# Altium schematic symbol library Custom.SchLib: 20 symbols
Pins are listed as number, name and electrical type; pins without a type are passive.

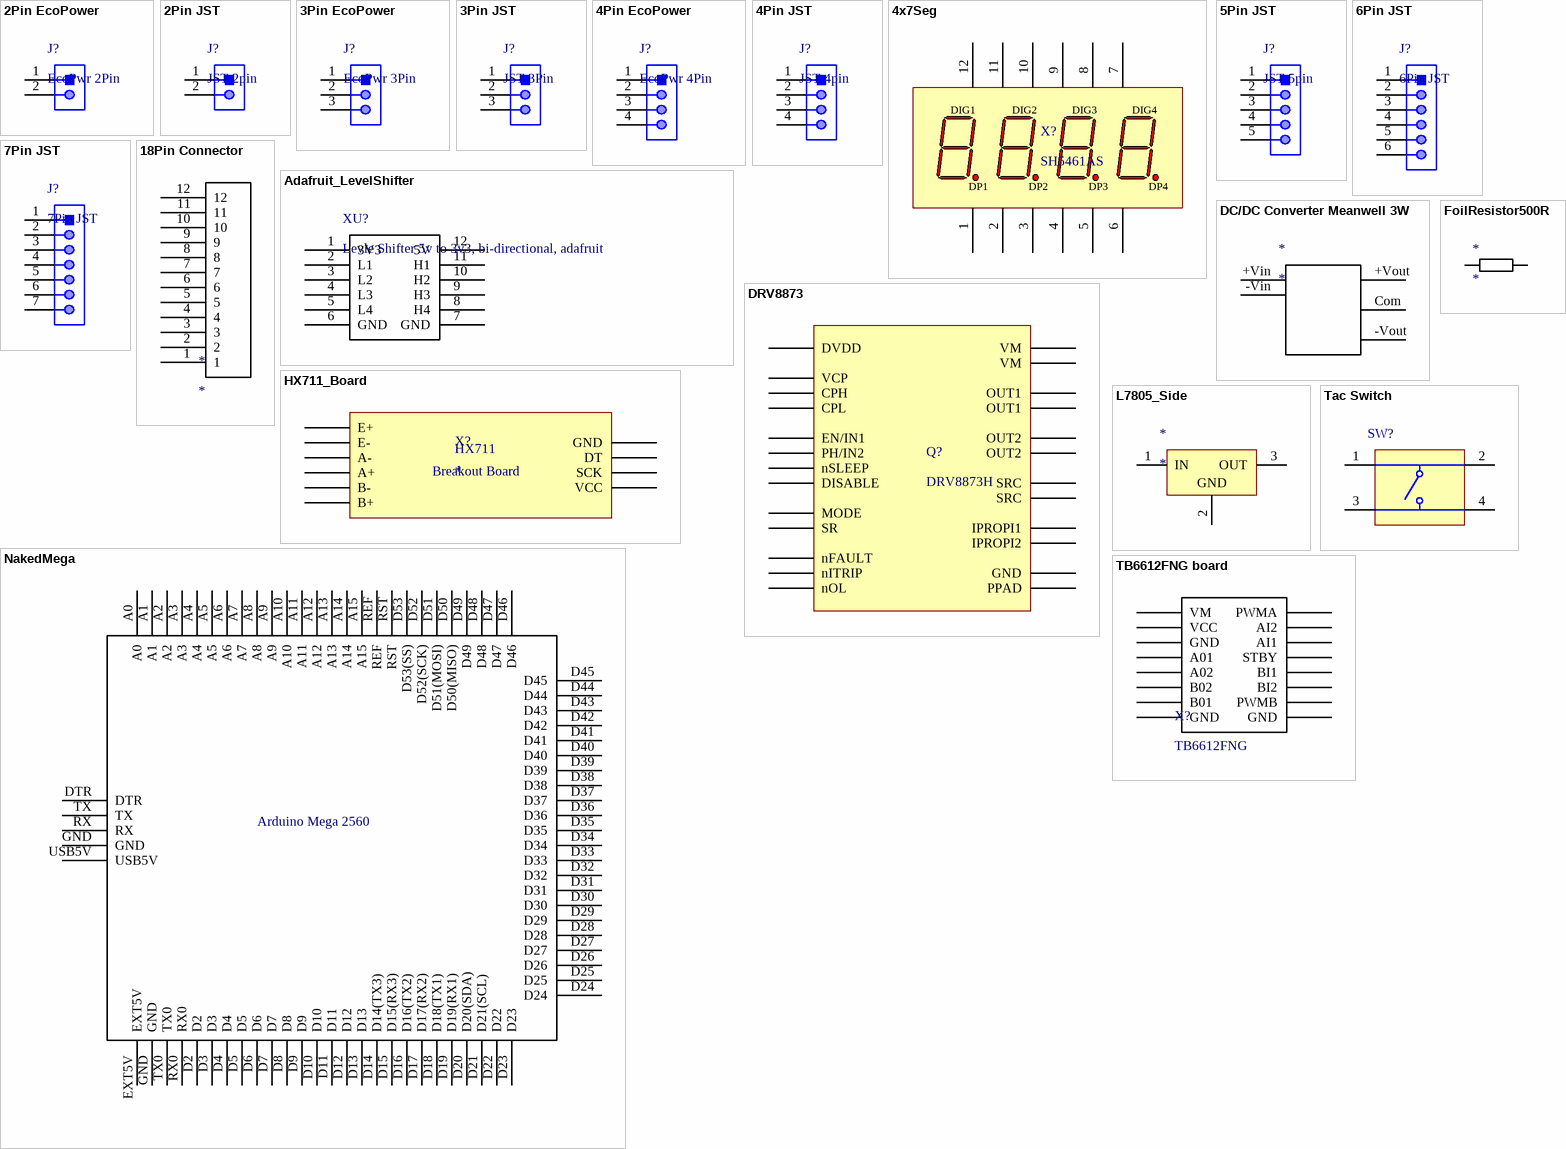
[diagram p0: symbols 2Pin EcoPower to TB6612FNG board]

## 2Pin EcoPower
designator J?, comment EcoPwr 2Pin
footprint 2Pin EcoPower
pins: 1, 2

## 2Pin JST
designator J?, comment JST 2pin
footprint 2Pin JST
pins: 1, 2

## 3Pin EcoPower
designator J?, comment EcoPwr 3Pin
footprint 3Pin EcoPower
pins: 1, 2, 3

## 3Pin JST
designator J?, comment JST 3Pin
footprint 3Pin JST
pins: 1, 2, 3

## 4Pin EcoPower
designator J?, comment EcoPwr 4Pin
footprint 4Pin EcoPower
pins: 1, 2, 3, 4

## 4Pin JST
designator J?, comment JST 4pin
footprint 4Pin JST
pins: 1, 2, 3, 4

## 4x7Seg
designator X?, comment SH5461AS
4 Character 7 Segment Display, Common Cathode
footprint 4x7Seg
pins: 1, 2, 3, 4, 5, 6, 7, 8, 9, 10, 11, 12
text: DIG1; DIG2; DIG3; DIG4; DP1; DP2; DP3; DP4

## 5Pin JST
designator J?, comment JST 5pin
footprint 5Pin JST
pins: 1, 2, 3, 4, 5

## 6Pin JST
designator J?
footprint 6Pin JST
pins: 1, 2, 3, 4, 5, 6

## 7Pin JST
designator J?
footprint 7Pin JST
pins: 1, 2, 3, 4, 5, 6, 7

## 18Pin Connector
designator *
footprint 18Pin Connector Board
pins: 1, 2, 3, 4, 5, 6, 7, 8, 9, 10, 11, 12

## Adafruit_LevelShifter
designator XU?, comment Levle Shifter 5v to 3v3, bi-directional, adafruit
footprint Adafruit_Levelshifter
pins: 1 3V3, 2 L1, 3 L2, 4 L3, 5 L4, 6 GND, 7 GND, 8 H4, 9 H3, 10 H2, 11 H1, 12 5V

## DC/DC Converter Meanwell 3W
designator *
footprint DC/DC Converter, 3W, 2 output (Mean Well DWN03)
pins: +Vin, +Vout 3, -Vin, -Vout 5, Com 4

## DRV8873
designator Q?, comment DRV8873H
DRV8873-Q1 Automotive H-Bridge Motor Driver / This one is the H version, with Hbridge gate controls (no SPI)
footprint DRV8873 (TSOP, 24-Leads, Body 7.80x4.40mm, Pitch 0.65mm, Thermal Pad 5.26x3.05mm, IPC Low Density)
pins: 1 DVDD, 2 nFAULT, 3 MODE, 4 SR, 5 nITRIP, 6 nOL, 7 EN/IN1, 8 PH/IN2, 9 DISABLE, 10 IPROPI1, 11 nSLEEP, 12 IPROPI2, 13 VM, 14 OUT2, 15 OUT2, 16 SRC, 17 SRC, 18 OUT1, 19 OUT1, 20 VM, 21 VCP, 22 CPH, 23 CPL, 24 GND, 25 PPAD

## FoilResistor500R
designator *
footprint PrecisionFoilResistor
pins: 1, 2

## HX711_Board
designator X?
footprint HX711_Board
footprint HX711_Board_Large
pins: 1 E+, 2 E-, 3 A-, 4 A+, 5 B-, 6 B+, 7 VCC, 8 SCK, 9 DT, 10 GND
text: HX711; Breakout Board

## L7805_Side
designator *
footprint TO220_Side Mount
pins: 1 IN (power), 2 GND (power), 3 OUT (power)

## NakedMega
designator ?
footprint ATMEGA2560 Breakout (Tindie breakout board for ATMega2560); pin to pad A0>0A A1>1A A2>2A A3>3A A4>4A A5>5A A6>6A A7>7A A8>8A A9>9A A10>10A A11>11A A12>12A A13>13A A14>14A A15>15A D2>2 D3>3 D4>4 D5>5 D6>6 D7>7 D8>8 D9>9 D10>10 D11>11 D12>12 D13>13 D14>14 D15>15 D16>16 D17>17 D18>18 D19>19 D20>20 D21>21 D22>22 D23>23 D24>24 D25>25 D26>26 D27>27 D28>28 D29>29 D30>30 D31>31 D32>32 D33>33 D34>34 D35>35 D36>36 D37>37 D38>38 D39>39 D40>40 D41>41 D42>42 D43>43 D44>44 D45>45 D46>46 D47>47 D48>48 D49>49 D50>50 D51>51 D52>52 D53>53 RST>54 RX0>1 TX0>0
footprint Arduino Mega (Arduino Mega 2560); pin to pad D2>2 D3>3 D4>4 D5>5 D6>6 D7>7 D8>8 D9>9 D10>10 D11>11 D12>12 D13>13 D14>14 D15>15 D16>16 D17>17 D18>18 D19>19 D20>20 D21>21 D22>22 D23>23 D24>24 D25>25 D26>26 D27>27 D28>28 D29>29 D30>30 D31>31 D32>32 D33>33 D34>34 D35>35 D36>36 D37>37 D38>38 D39>39 D40>40 D41>41 D42>42 D43>43 D44>44 D45>45 D46>46 D47>47 D48>48 D49>49 D50>50 D51>51 D52>52 D53>53 DTR>none EXT5V>5V RX>none RX0>1 TX>none TX0>0 USB5V>none
pins: A0, A1, A2, A3, A4, A5, A6, A7, A8, A9, A10, A11, A12, A13, A14, A15, D2, D3, D4, D5, D6, D7, D8, D9, D10, D11, D12, D13, D14 D14(TX3), D15 D15(RX3), D16 D16(TX2), D17 D17(RX2), D18 D18(TX1), D19 D19(RX1), D20 D20(SDA), D21 D21(SCL), D22, D23, D24, D25, D26, D27, D28, D29, D30, D31, D32, D33, D34, D35, D36, D37, D38, D39, D40, D41, D42, D43, D44, D45, D46, D47, D48, D49, D50 D50(MISO), D51 D51(MOSI), D52 D52(SCK), D53 D53(SS), DTR, EXT5V, GND, GND, REF, RST, RX, RX0, TX, TX0, USB5V
text: Arduino Mega 2560

## Tac Switch
designator SW?
footprint TacSwitch
pins: 1, 2, 3, 4

## TB6612FNG board
designator X?, comment TB6612FNG
footprint TB6612FNG BOARD
pins: 1 VM, 2 VCC, 3 GND, 4 A01, 5 A02, 6 B02, 7 B01, 8 GND, 9 PWMA, 10 AI2, 11 AI1, 12 STBY, 13 BI1, 14 BI2, 15 PWMB, 16 GND